# Altium footprint library Footprint Library.PcbLib: 15 footprints
Each footprint in its own frame and in the unit in brackets; x right, y up, seen from the top. Pads: shape width x height; smd on the part's side, far side on the other; paste and mask are expansions set on the pad; w line width, h text height; cw(c..) or ccw(c..) is an arc to the next point about the centre after c.
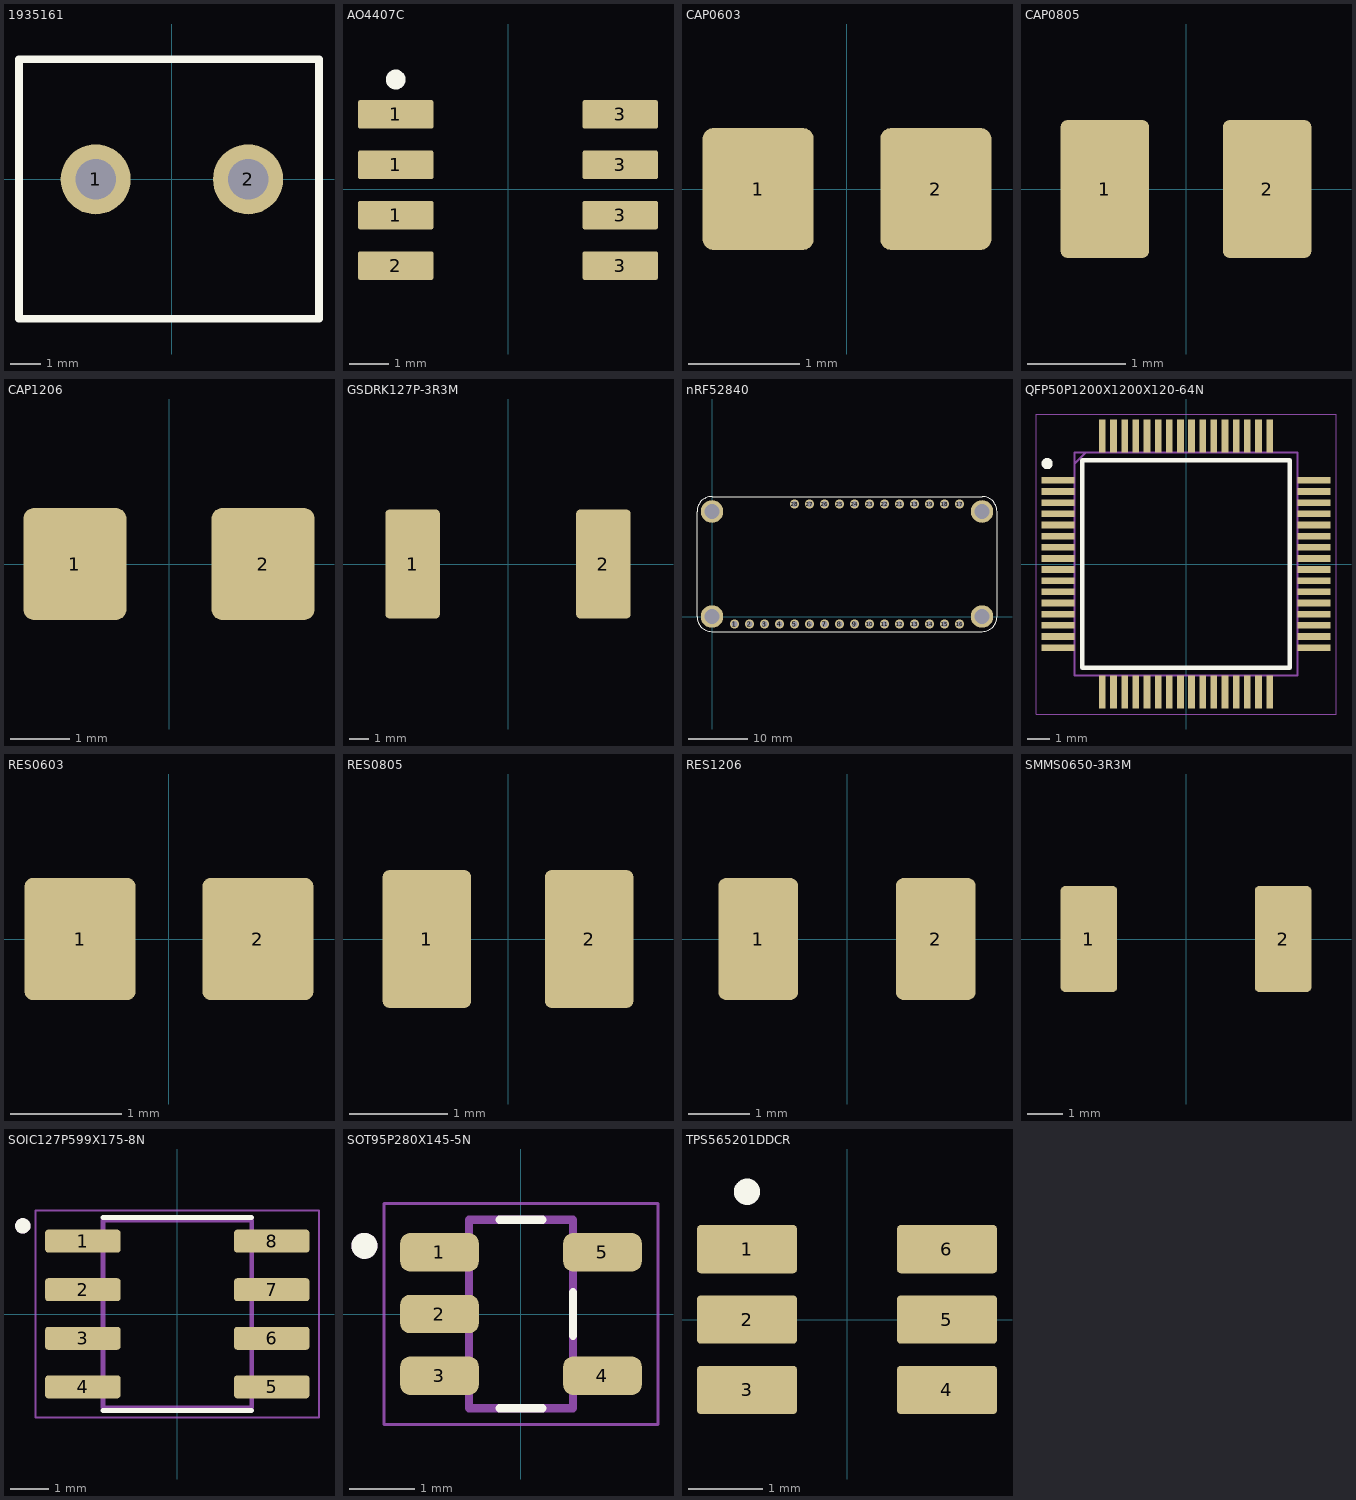
[diagram p0: the footprints below, top view; thin cyan lines are the x and y axes]

## 1935161 [mm] "TERM BLK 2POS SIDE ENTRY 5MM PCB"
pads (2):
  round 2.3 hole 1.325: 1(-2.5,0) 2(2.5,0)
Top Overlay:
  lines w0.254: -5.015,-4.572 4.826,-4.572 4.826,3.938 -5.015,3.938 -5.015,-4.572
3D body "1935161--3DModel-STEP-56544.STEP": height 11.41, standoff -3.49, extent -5.015,-5.062 5.385,3.938

## AO4407C [mm] "MOSFET P-CH 30V 14A SO-8"
pads (8):
  rrect15% 1.9x0.72 smd: 1(-2.827,-0.656) 1(-2.827,0.614) 1(-2.827,1.884) 2(-2.827,-1.926) 3(2.823,-1.926) 3(2.823,-0.656) 3(2.823,0.614) 3(2.823,1.884)
Top Overlay:
  circle w0.25: c-2.827,2.759 r0.125
3D body "User Library-SOIC-8-1.step": height 1.75, standoff 0, extent -3,-2.45 3,2.45

## CAP0603 [mm] "Ceramic Capacitor 0603"
height 0.55
pads (2):
  rrect20% 1x1.1 smd: 1(-0.8,0) 2(0.8,0)
Mechanical 13:
  lines w0.1: -0.875,-0.475 -0.875,0.475 ; 0.875,-0.475 0.875,0.475
3D body: height 0.55, standoff 0, extent -0.875,-0.475 -0.525,0.475
3D body: height 0.55, standoff 0, extent 0.525,-0.475 0.875,0.475
3D body "c0603c101j1gactu.stp": height 0.87, standoff 0, extent -0.875,-0.475 0.875,0.475

## CAP0805 [mm] "Ceramic Capacitor 0805"
pads (2):
  rrect15% 0.9x1.4 smd: 1(-0.825,0) 2(0.825,0)
3D body "CAP0805.stp": height 1.39, standoff -0.01, extent -1.1,-0.725 1.1,0.725

## CAP1206 [mm] "Ceramic Capacitor 1206"
height 0.55
pads (2):
  rrect20% 1.75x1.9 smd: 1(-1.6,0) 2(1.6,0)
3D body "1206.stp": height 0.88, standoff 0, extent -1.7,-0.9 1.7,0.9

## GSDRK127P-3R3M [mm] "IND 3.3UH 9.6A 10M OHM"
pads (2):
  rrect15% 2.8x5.6 smd: 1(-4.9,0) 2(4.9,0)
3D body: height 8, standoff 0, extent -6.25,-6.25 6.25,6.25

## nRF52840 [mil]
pads (32):
  round 60 hole 40 unplated: 1(150,-50) 2(250,-50) 3(350,-50) 4(450,-50) 5(550,-50) 6(650,-50) 7(750,-50) 8(850,-50) 9(950,-50) 10(1050,-50) 11(1150,-50) 12(1250,-50) 13(1350,-50) 13(1350,750) 14(1450,-50) 15(1550,-50) 16(1650,-50) 17(1650,750) 18(1550,750) 19(1450,750) 21(1250,750) 22(1150,750) 23(1050,750) 24(950,750) 25(850,750) 26(750,750) 27(650,750) 28(550,750)
  round 150 hole 100 unplated: ""(0,0) ""(0,700) ""(1800,0) ""(1800,700)
Top Overlay:
  lines w5: -100,0 ccw(c0,0) 0,-100 1800,-100 ccw(c1800,0) 1900,0 1900,700 ccw(c1800,700) 1800,800 0,800 ccw(c0,700) -100,700 -100,0
3D body "4062-nRF52830-Feather.step": height 375.2, standoff 100, extent -125.79,-100 1900,800

## QFP50P1200X1200X120-64N [mm]
pads (64):
  rect 1.475x0.3 smd: 1(-5.738,3.75) 2(-5.738,3.25) 3(-5.738,2.75) 4(-5.738,2.25) 5(-5.738,1.75) 6(-5.738,1.25) 7(-5.738,0.75) 8(-5.738,0.25) 9(-5.738,-0.25) 10(-5.738,-0.75) 11(-5.738,-1.25) 12(-5.738,-1.75) 13(-5.738,-2.25) 14(-5.738,-2.75) 15(-5.738,-3.25) 16(-5.738,-3.75) 33(5.738,-3.75) 34(5.738,-3.25) 35(5.738,-2.75) 36(5.738,-2.25) 37(5.738,-1.75) 38(5.738,-1.25) 39(5.738,-0.75) 40(5.738,-0.25) 41(5.738,0.25) 42(5.738,0.75) 43(5.738,1.25) 44(5.738,1.75) 45(5.738,2.25) 46(5.738,2.75) 47(5.738,3.25) 48(5.738,3.75)
  rect 0.3x1.475 smd: 17(-3.75,-5.738) 18(-3.25,-5.738) 19(-2.75,-5.738) 20(-2.25,-5.738) 21(-1.75,-5.738) 22(-1.25,-5.738) 23(-0.75,-5.738) 24(-0.25,-5.738) 25(0.25,-5.738) 26(0.75,-5.738) 27(1.25,-5.738) 28(1.75,-5.738) 29(2.25,-5.738) 30(2.75,-5.738) 31(3.25,-5.738) 32(3.75,-5.738) 49(3.75,5.738) 50(3.25,5.738) 51(2.75,5.738) 52(2.25,5.738) 53(1.75,5.738) 54(1.25,5.738) 55(0.75,5.738) 56(0.25,5.738) 57(-0.25,5.738) 58(-0.75,5.738) 59(-1.25,5.738) 60(-1.75,5.738) 61(-2.25,5.738) 62(-2.75,5.738) 63(-3.25,5.738) 64(-3.75,5.738)
Top Overlay:
  circle w0.25: c-6.225,4.5 r0.125
  lines w0.2: -4.65,-4.65 4.65,-4.65 4.65,4.65 -4.65,4.65 -4.65,-4.65
Mechanical 13:
  lines w0.1: -5,4.5 -4.5,5 ; -5,-5 5,-5 5,5 -5,5 -5,-5
Mechanical 15:
  lines w0.05: -6.725,-6.725 6.725,-6.725 6.725,6.725 -6.725,6.725 -6.725,-6.725
3D body "ADS1299-X.stp": height 1.09, standoff 0, extent -6,-6 6,6

## RES0603 [mm] "SMT Resistor 0603"
height 0.6
pads (2):
  rrect15% 1x1.1 smd: 1(-0.8,0) 2(0.8,0)
3D body "0603.step": height 0.46, standoff 0.01, extent -0.8,-0.4 0.8,0.4

## RES0805 [mm] "SMT Resistor 0805"
height 0.5
pads (2):
  rrect15% 0.9x1.4 smd: 1(-0.825,0) 2(0.825,0)
3D body "0805 resistor.step": height 0.61, standoff 0.01, extent -1,-0.625 1,0.625

## RES1206 [mm] "SMT Resistor 1206"
height 0.75
pads (2):
  rrect20% 1.3x2 smd: 1(-1.45,0) 2(1.45,0)
3D body "1206 resistor.step": height 0.61, standoff 0.01, extent -1.6,-0.8 1.6,0.8

## SMMS0650-3R3M [mm] "IND 3.3UH 8.5A 22M OHM"
pads (2):
  rrect15% 1.6x3 smd: 1(-2.75,0) 2(2.75,0)
3D body: height 5, standoff 0, extent -3.55,-3.3 3.55,3.3

## SOIC127P599X175-8N [mm]
pads (8):
  rrect25% 1.97x0.6 smd: 1(-2.47,1.905) 2(-2.47,0.635) 3(-2.47,-0.635) 4(-2.47,-1.905) 5(2.47,-1.905) 6(2.47,-0.635) 7(2.47,0.635) 8(2.47,1.905)
Top Overlay:
  circle w0.2: c-4.04,2.305 r0.1
  lines w0.127: -1.947,-2.525 1.947,-2.525 ; -1.947,2.525 1.947,2.525
Mechanical 13:
  circle w0.2: c-4.04,2.305 r0.1
  lines w0.127: -1.947,-2.452 -1.947,2.452 1.947,2.452 1.947,-2.452 -1.947,-2.452
Mechanical 15:
  lines w0.05: -3.705,-2.702 -3.705,2.702 3.705,2.702 3.705,-2.702 -3.705,-2.702
3D body "NOPB.STEP": height 1.75, standoff 0, extent -3,-2.45 3,2.45

## SOT95P280X145-5N [mm]
pads (5):
  rrect50% 1.21x0.59 smd: 1(-1.255,0.95) 2(-1.255,0) 3(-1.255,-0.95) 4(1.255,-0.95) 5(1.255,0.95)
Top Overlay:
  circle w0.2: c-2.41,1.05 r0.1
  lines w0.127: -0.33,-1.45 0.33,-1.45 ; -0.33,1.45 0.33,1.45 ; 0.8,-0.335 0.8,0.335
Mechanical 13:
  circle w0.2: c-2.41,1.05 r0.1
  lines w0.127: -0.8,-1.45 -0.8,1.45 0.8,1.45 0.8,-1.45 -0.8,-1.45
Mechanical 15:
  lines w0.05: -2.11,-1.7 2.11,-1.7 2.11,1.7 -2.11,1.7 -2.11,-1.7
3D body "SOT95P280X145-5N.STEP": height 1.45, standoff 0, extent -1.4,-1.45 1.4,1.45

## TPS565201DDCR [mm] "IC REG BUCK ADJ 5A TSOT23-6"
height 1.1
pads (6):
  rrect15% 1.35x0.65 smd mask+0.102: 1(-1.35,0.95) 2(-1.35,0) 3(-1.35,-0.95) 4(1.35,-0.95) 5(1.35,0) 6(1.35,0.95)
Top Overlay:
  circle w0.254: c-1.35,1.725 r0.05
3D body "SOT-23-6.step": height 1.45, standoff 0, extent -1.4,-1.45 1.4,1.45